# EAGLE library part TPA2016D2 (library pimoroni)
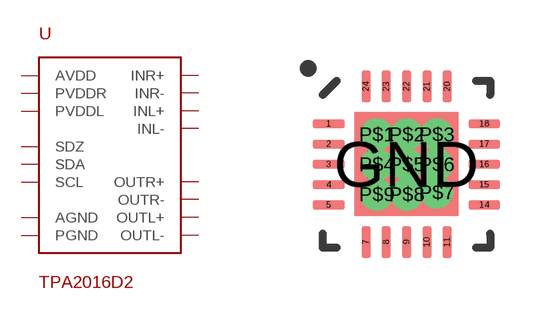
[diagram p39: symbol with the pads of TPA2016; footprint TPA2016]

Designator prefix -

## TPA2016D2  [TPA2016]
1  INL+
2  INL-
3  AGND
4  PVDDL
5  PVDDL
7  OUTL+
8  OUTL-
9  PGND
10  OUTR-
11  OUTR+
14  PVDDR
15  PVDDR
16  AVDD
17  INR-
18  INR+
21  SCL
22  SDZ
23  SDA
GND  PGND

## Footprint TPA2016 (pad centres in mm)
smd 0.8 x 0.23: 1 -2.005,0.97; 2 -2.005,0.462; 3 -2.005,-0.046; 4 -2.005,-0.554; 5 -2.005,-1.062; 14 1.889,-1.062; 15 1.889,-0.554; 16 1.889,-0.046; 17 1.889,0.462; 18 1.889,0.97
smd 0.23 x 0.8: 7 -1.07,-1.989; 8 -0.562,-1.989; 9 -0.054,-1.989; 10 0.454,-1.989; 11 0.962,-1.989; 20 0.962,1.905; 21 0.454,1.905; 22 -0.054,1.905; 23 -0.562,1.905; 24 -1.07,1.905
smd 2.6 x 2.6: GND -0.064,-0.036
drill 0.3: P$1 -0.8,0.7; P$2 -0.05,0.7; P$3 0.7,0.7; P$4 -0.8,-0.05; P$5 -0.05,-0.05; P$6 0.7,-0.05; P$7 0.7,-0.75; P$8 -0.05,-0.8; P$9 -0.8,-0.8